# Altium schematic symbol library MIC4127YMME-TR.SchLib: 2 symbols
Pins are listed as number, name and electrical type; pins without a type are passive.

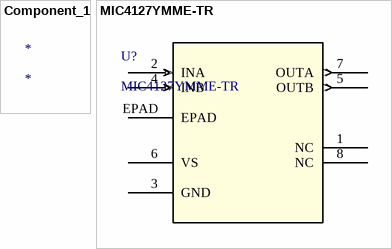
[diagram p0: symbols Component_1 to MIC4127YMME-TR]

## Component_1
designator *

## MIC4127YMME-TR
designator U?
No Description Available; Mfr_Name: Microchip; Copyright: Copyright (C) 2022 Ultra Librarian. All rights reserved.; Manufacturer_Part_Number: MIC4127YMME-TR; RefDes: RefDes; Type: DEV
footprint MSOP-8_MME_MCH
pins: 1 NC, 2 INA (in), 3 GND (power), 4 INB (in), 5 OUTB (out), 6 VS (power), 7 OUTA (out), 8 NC, EPAD